# Altium schematic symbol library LSF0101DRYR.SchLib: 1 symbol
Pins are listed as number, name and electrical type; pins without a type are passive.

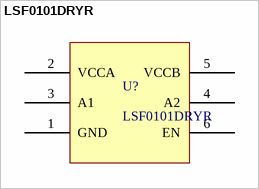
[diagram p0: symbol LSF0101DRYR]

## LSF0101DRYR
designator U?
Translation - Voltage Levels SGL/Dual Bi-Direct MltiVTG Level Tnsltr
footprint LSF0108RKSR (Translation - Voltage Levels Octal Bidir Multi- Vltg Lev Translator)
pins: 1 GND, 2 VCCA (power), 3 A1, 4 A2, 5 VCCB, 6 EN